# Altium schematic symbol library HomeAutomation.SchLib: 8 symbols
Pins are listed as number, name and electrical type; pins without a type are passive.

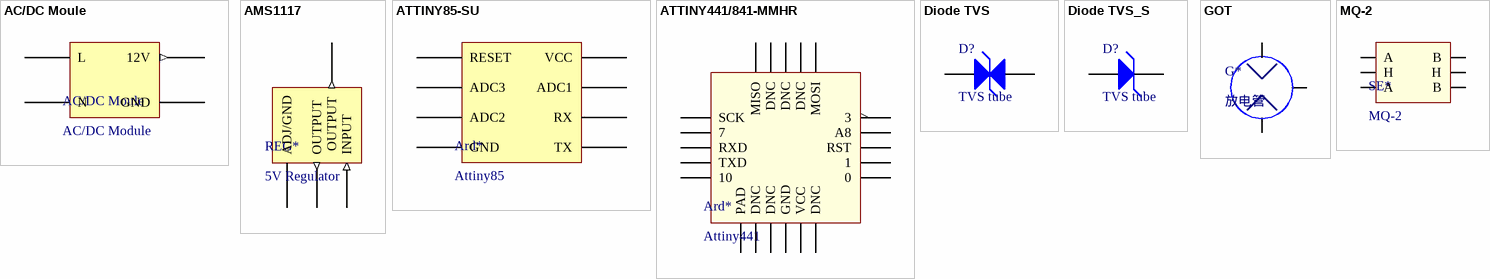
[diagram p0: symbols AC/DC Moule to MQ-2]

## AC/DC Moule
designator AC/DC Moule, comment AC/DC Module
AC/DC Module 220V AC / 12V DC 1A
footprint HB12N10-2836 (220V AC to 12VDC 1A)
pins: 1 L (power), 2 N (power), 3 12V (out), 5 GND

## AMS1117
designator REG*, comment 5V Regulator
footprint SOT223 (SOT223 /SC-73)
pins: 1 ADJ/GND, 2 OUTPUT (out), 3 INPUT (in), 4 OUTPUT (out)

## ATTINY85-SU
designator Ard*, comment Attiny85
ATTINY-85-20SU
footprint SOIC127P600X175-8AN (SOIC, 8-Leads, Body 4.9x3.9mm, Pitch 1.27mm, IPC Medium Density)
pins: 1 RESET, 2 ADC3, 3 ADC2, 4 GND, 5 TX, 6 RX, 7 ADC1, 8 VCC

## ATTINY441/841-MMHR
designator Ard*, comment Attiny441
ATTINY441/841-MMHR
footprint RGW20_L (20-Pin Plastic Quad Flat No-Lead 0.65 mm Pitch, IPC High Density)
pins: 1 SCK, 2 7, 3 RXD, 4 TXD, 5 10, 6 DNC, 7 DNC, 8 GND, 9 VCC, 10 DNC, 11 0, 12 1, 13 RST, 14 A8, 15 3, 16 MOSI "Also SDA", 17 DNC, 18 DNC, 19 DNC, 20 MISO, 21 PAD "Connect to Ground"

## Diode TVS
designator D?, comment TVS tube
Diode TVS
footprint DO-15 (TVS Tube)
pins: 1 A, 2 K

## Diode TVS_S
designator D?, comment TVS tube
Diode TVS
footprint DO-15 (TVS Tube)
footprint ONSC-SMB-2-403A-03_H_V (Molded, 2-Leads, Body 4.6x3.95mm)
pins: 1 A, 2 K

## GOT
designator G*, comment 放电管
3RM230L-8 230V
footprint GAS TUBE
pins: 1, 2 7, 3

## MQ-2
designator SE*
MQ-2 gas sensor
footprint MQ-2
pins: 1 A, 2 H, 3 A, 4 B, 5 H, 6 B